# EAGLE library part TMS320C6745 (library ic-TI-DSP)
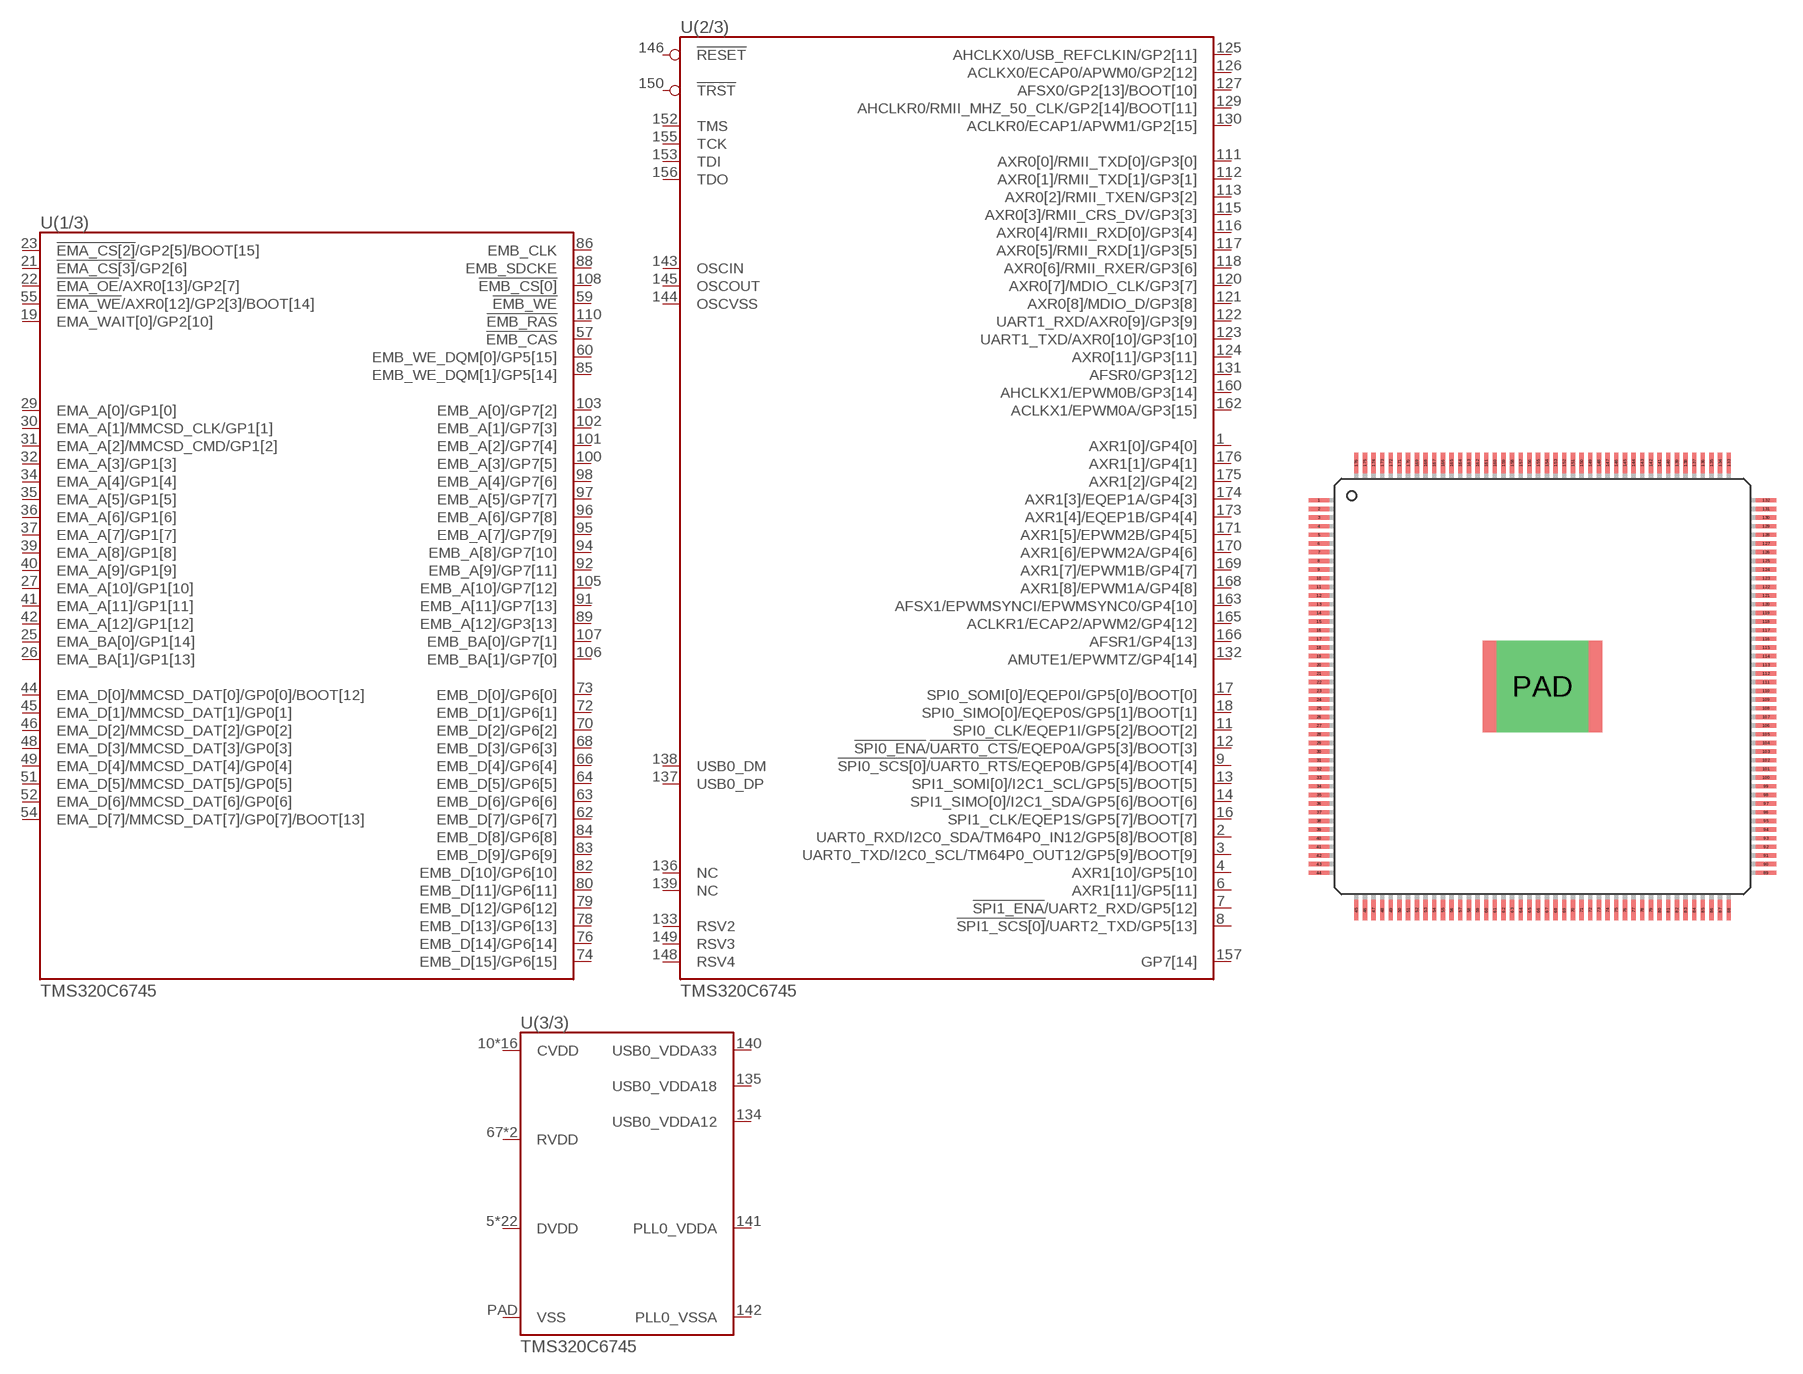
[diagram p0: symbol with the pads of QFP176-0.5-PAD; footprint QFP176-0.5-PAD]

Designator prefix U; gates (1/3)=TMS320C6745-1 (2/3)=TMS320C6745-2 (3/3)=TMS320C6745-3

## TMS320C6745  [QFP176-0.5-PAD]
1  (2/3):AXR1[0]/GP4[0]
2  (2/3):UART0_RXD/I2C0_SDA/TM64P0_IN12/GP5[8]/BOOT[8]
3  (2/3):UART0_TXD/I2C0_SCL/TM64P0_OUT12/GP5[9]/BOOT[9]
4  (2/3):AXR1[10]/GP5[10]
5  (3/3):DVDD
6  (2/3):AXR1[11]/GP5[11]
7  (2/3):!SPI1_ENA!/UART2_RXD/GP5[12]
8  (2/3):!SPI1_SCS[0]!/UART2_TXD/GP5[13]
9  (2/3):!SPI0_SCS[0]!/!UART0_RTS!/EQEP0B/GP5[4]/BOOT[4]
10  (3/3):CVDD
11  (2/3):SPI0_CLK/EQEP1I/GP5[2]/BOOT[2]
12  (2/3):!SPI0_ENA!/!UART0_CTS!/EQEP0A/GP5[3]/BOOT[3]
13  (2/3):SPI1_SOMI[0]/I2C1_SCL/GP5[5]/BOOT[5]
14  (2/3):SPI1_SIMO[0]/I2C1_SDA/GP5[6]/BOOT[6]
15  (3/3):DVDD
16  (2/3):SPI1_CLK/EQEP1S/GP5[7]/BOOT[7]
17  (2/3):SPI0_SOMI[0]/EQEP0I/GP5[0]/BOOT[0]
18  (2/3):SPI0_SIMO[0]/EQEP0S/GP5[1]/BOOT[1]
19  (1/3):EMA_WAIT[0]/GP2[10]
20  (3/3):CVDD
21  (1/3):!EMA_CS[3]!/GP2[6]
22  (1/3):!EMA_OE!/AXR0[13]/GP2[7]
23  (1/3):!EMA_CS[2]!/GP2[5]/BOOT[15]
24  (3/3):DVDD
25  (1/3):EMA_BA[0]/GP1[14]
26  (1/3):EMA_BA[1]/GP1[13]
27  (1/3):EMA_A[10]/GP1[10]
28  (3/3):CVDD
29  (1/3):EMA_A[0]/GP1[0]
30  (1/3):EMA_A[1]/MMCSD_CLK/GP1[1]
31  (1/3):EMA_A[2]/MMCSD_CMD/GP1[2]
32  (1/3):EMA_A[3]/GP1[3]
33  (3/3):DVDD
34  (1/3):EMA_A[4]/GP1[4]
35  (1/3):EMA_A[5]/GP1[5]
36  (1/3):EMA_A[6]/GP1[6]
37  (1/3):EMA_A[7]/GP1[7]
38  (3/3):CVDD
39  (1/3):EMA_A[8]/GP1[8]
40  (1/3):EMA_A[9]/GP1[9]
41  (1/3):EMA_A[11]/GP1[11]
42  (1/3):EMA_A[12]/GP1[12]
43  (3/3):DVDD
44  (1/3):EMA_D[0]/MMCSD_DAT[0]/GP0[0]/BOOT[12]
45  (1/3):EMA_D[1]/MMCSD_DAT[1]/GP0[1]
46  (1/3):EMA_D[2]/MMCSD_DAT[2]/GP0[2]
47  (3/3):DVDD
48  (1/3):EMA_D[3]/MMCSD_DAT[3]/GP0[3]
49  (1/3):EMA_D[4]/MMCSD_DAT[4]/GP0[4]
50  (3/3):CVDD
51  (1/3):EMA_D[5]/MMCSD_DAT[5]/GP0[5]
52  (1/3):EMA_D[6]/MMCSD_DAT[6]/GP0[6]
53  (3/3):DVDD
54  (1/3):EMA_D[7]/MMCSD_DAT[7]/GP0[7]/BOOT[13]
55  (1/3):!EMA_WE!/AXR0[12]/GP2[3]/BOOT[14]
56  (3/3):CVDD
57  (1/3):!EMB_CAS
58  (3/3):DVDD
59  (1/3):!EMB_WE
60  (1/3):EMB_WE_DQM[0]/GP5[15]
61  (3/3):CVDD
62  (1/3):EMB_D[7]/GP6[7]
63  (1/3):EMB_D[6]/GP6[6]
64  (1/3):EMB_D[5]/GP6[5]
65  (3/3):DVDD
66  (1/3):EMB_D[4]/GP6[4]
67  (3/3):RVDD
68  (1/3):EMB_D[3]/GP6[3]
69  (3/3):CVDD
70  (1/3):EMB_D[2]/GP6[2]
71  (3/3):DVDD
72  (1/3):EMB_D[1]/GP6[1]
73  (1/3):EMB_D[0]/GP6[0]
74  (1/3):EMB_D[15]/GP6[15]
75  (3/3):DVDD
76  (1/3):EMB_D[14]/GP6[14]
77  (3/3):CVDD
78  (1/3):EMB_D[13]/GP6[13]
79  (1/3):EMB_D[12]/GP6[12]
80  (1/3):EMB_D[11]/GP6[11]
81  (3/3):DVDD
82  (1/3):EMB_D[10]/GP6[10]
83  (1/3):EMB_D[9]/GP6[9]
84  (1/3):EMB_D[8]/GP6[8]
85  (1/3):EMB_WE_DQM[1]/GP5[14]
86  (1/3):EMB_CLK
87  (3/3):DVDD
88  (1/3):EMB_SDCKE
89  (1/3):EMB_A[12]/GP3[13]
90  (3/3):DVDD
91  (1/3):EMB_A[11]/GP7[13]
92  (1/3):EMB_A[9]/GP7[11]
93  (3/3):CVDD
94  (1/3):EMB_A[8]/GP7[10]
95  (1/3):EMB_A[7]/GP7[9]
96  (1/3):EMB_A[6]/GP7[8]
97  (1/3):EMB_A[5]/GP7[7]
98  (1/3):EMB_A[4]/GP7[6]
99  (3/3):DVDD
100  (1/3):EMB_A[3]/GP7[5]
101  (1/3):EMB_A[2]/GP7[4]
102  (1/3):EMB_A[1]/GP7[3]
103  (1/3):EMB_A[0]/GP7[2]
104  (3/3):CVDD
105  (1/3):EMB_A[10]/GP7[12]
106  (1/3):EMB_BA[1]/GP7[0]
107  (1/3):EMB_BA[0]/GP7[1]
108  (1/3):!EMB_CS[0]
109  (3/3):DVDD
110  (1/3):!EMB_RAS
111  (2/3):AXR0[0]/RMII_TXD[0]/GP3[0]
112  (2/3):AXR0[1]/RMII_TXD[1]/GP3[1]
113  (2/3):AXR0[2]/RMII_TXEN/GP3[2]
114  (3/3):CVDD
115  (2/3):AXR0[3]/RMII_CRS_DV/GP3[3]
116  (2/3):AXR0[4]/RMII_RXD[0]/GP3[4]
117  (2/3):AXR0[5]/RMII_RXD[1]/GP3[5]
118  (2/3):AXR0[6]/RMII_RXER/GP3[6]
119  (3/3):DVDD
120  (2/3):AXR0[7]/MDIO_CLK/GP3[7]
121  (2/3):AXR0[8]/MDIO_D/GP3[8]
122  (2/3):UART1_RXD/AXR0[9]/GP3[9]
123  (2/3):UART1_TXD/AXR0[10]/GP3[10]
124  (2/3):AXR0[11]/GP3[11]
125  (2/3):AHCLKX0/USB_REFCLKIN/GP2[11]
126  (2/3):ACLKX0/ECAP0/APWM0/GP2[12]
127  (2/3):AFSX0/GP2[13]/BOOT[10]
128  (3/3):DVDD
129  (2/3):AHCLKR0/RMII_MHZ_50_CLK/GP2[14]/BOOT[11]
130  (2/3):ACLKR0/ECAP1/APWM1/GP2[15]
131  (2/3):AFSR0/GP3[12]
132  (2/3):AMUTE1/EPWMTZ/GP4[14]
133  (2/3):RSV2
134  (3/3):USB0_VDDA12
135  (3/3):USB0_VDDA18
136  (2/3):NC
137  (2/3):USB0_DP
138  (2/3):USB0_DM
139  (2/3):NC
140  (3/3):USB0_VDDA33
141  (3/3):PLL0_VDDA
142  (3/3):PLL0_VSSA
143  (2/3):OSCIN
144  (2/3):OSCVSS
145  (2/3):OSCOUT
146  (2/3):!RESET
147  (3/3):CVDD
148  (2/3):RSV4
149  (2/3):RSV3
150  (2/3):!TRST
151  (3/3):DVDD
152  (2/3):TMS
153  (2/3):TDI
154  (3/3):CVDD
155  (2/3):TCK
156  (2/3):TDO
157  (2/3):GP7[14]
158  (3/3):DVDD
159  (3/3):RVDD
160  (2/3):AHCLKX1/EPWM0B/GP3[14]
161  (3/3):CVDD
162  (2/3):ACLKX1/EPWM0A/GP3[15]
163  (2/3):AFSX1/EPWMSYNCI/EPWMSYNC0/GP4[10]
164  (3/3):DVDD
165  (2/3):ACLKR1/ECAP2/APWM2/GP4[12]
166  (2/3):AFSR1/GP4[13]
167  (3/3):CVDD
168  (2/3):AXR1[8]/EPWM1A/GP4[8]
169  (2/3):AXR1[7]/EPWM1B/GP4[7]
170  (2/3):AXR1[6]/EPWM2A/GP4[6]
171  (2/3):AXR1[5]/EPWM2B/GP4[5]
172  (3/3):DVDD
173  (2/3):AXR1[4]/EQEP1B/GP4[4]
174  (2/3):AXR1[3]/EQEP1A/GP4[3]
175  (2/3):AXR1[2]/GP4[2]
176  (2/3):AXR1[1]/GP4[1]
PAD  (3/3):VSS

## Footprint QFP176-0.5-PAD (pad centres in mm)
smd 1.2 x 0.25: 1 -12.9,10.75; 2 -12.9,10.25; 3 -12.9,9.75; 4 -12.9,9.25; 5 -12.9,8.75; 6 -12.9,8.25; 7 -12.9,7.75; 8 -12.9,7.25; 9 -12.9,6.75; 10 -12.9,6.25; 11 -12.9,5.75; 12 -12.9,5.25; 13 -12.9,4.75; 14 -12.9,4.25; 15 -12.9,3.75; 16 -12.9,3.25; 17 -12.9,2.75; 18 -12.9,2.25; 19 -12.9,1.75; 20 -12.9,1.25; 21 -12.9,0.75; 22 -12.9,0.25; 23 -12.9,-0.25; 24 -12.9,-0.75; 25 -12.9,-1.25; 26 -12.9,-1.75; 27 -12.9,-2.25; 28 -12.9,-2.75; 29 -12.9,-3.25; 30 -12.9,-3.75; 31 -12.9,-4.25; 32 -12.9,-4.75; 33 -12.9,-5.25; 34 -12.9,-5.75; 35 -12.9,-6.25; 36 -12.9,-6.75; 37 -12.9,-7.25; 38 -12.9,-7.75; 39 -12.9,-8.25; 40 -12.9,-8.75; 41 -12.9,-9.25; 42 -12.9,-9.75; 43 -12.9,-10.25; 44 -12.9,-10.75; 89 12.9,-10.75; 90 12.9,-10.25; 91 12.9,-9.75; 92 12.9,-9.25; 93 12.9,-8.75; 94 12.9,-8.25; 95 12.9,-7.75; 96 12.9,-7.25; 97 12.9,-6.75; 98 12.9,-6.25; 99 12.9,-5.75; 100 12.9,-5.25; 101 12.9,-4.75; 102 12.9,-4.25; 103 12.9,-3.75; 104 12.9,-3.25; 105 12.9,-2.75; 106 12.9,-2.25; 107 12.9,-1.75; 108 12.9,-1.25; 109 12.9,-0.75; 110 12.9,-0.25; 111 12.9,0.25; 112 12.9,0.75; 113 12.9,1.25; 114 12.9,1.75; 115 12.9,2.25; 116 12.9,2.75; 117 12.9,3.25; 118 12.9,3.75; 119 12.9,4.25; 120 12.9,4.75; 121 12.9,5.25; 122 12.9,5.75; 123 12.9,6.25; 124 12.9,6.75; 125 12.9,7.25; 126 12.9,7.75; 127 12.9,8.25; 128 12.9,8.75; 129 12.9,9.25; 130 12.9,9.75; 131 12.9,10.25; 132 12.9,10.75
smd 0.25 x 1.2: 45 -10.75,-12.9; 46 -10.25,-12.9; 47 -9.75,-12.9; 48 -9.25,-12.9; 49 -8.75,-12.9; 50 -8.25,-12.9; 51 -7.75,-12.9; 52 -7.25,-12.9; 53 -6.75,-12.9; 54 -6.25,-12.9; 55 -5.75,-12.9; 56 -5.25,-12.9; 57 -4.75,-12.9; 58 -4.25,-12.9; 59 -3.75,-12.9; 60 -3.25,-12.9; 61 -2.75,-12.9; 62 -2.25,-12.9; 63 -1.75,-12.9; 64 -1.25,-12.9; 65 -0.75,-12.9; 66 -0.25,-12.9; 67 0.25,-12.9; 68 0.75,-12.9; 69 1.25,-12.9; 70 1.75,-12.9; 71 2.25,-12.9; 72 2.75,-12.9; 73 3.25,-12.9; 74 3.75,-12.9; 75 4.25,-12.9; 76 4.75,-12.9; 77 5.25,-12.9; 78 5.75,-12.9; 79 6.25,-12.9; 80 6.75,-12.9; 81 7.25,-12.9; 82 7.75,-12.9; 83 8.25,-12.9; 84 8.75,-12.9; 85 9.25,-12.9; 86 9.75,-12.9; 87 10.25,-12.9; 88 10.75,-12.9; 133 10.75,12.9; 134 10.25,12.9; 135 9.75,12.9; 136 9.25,12.9; 137 8.75,12.9; 138 8.25,12.9; 139 7.75,12.9; 140 7.25,12.9; 141 6.75,12.9; 142 6.25,12.9; 143 5.75,12.9; 144 5.25,12.9; 145 4.75,12.9; 146 4.25,12.9; 147 3.75,12.9; 148 3.25,12.9; 149 2.75,12.9; 150 2.25,12.9; 151 1.75,12.9; 152 1.25,12.9; 153 0.75,12.9; 154 0.25,12.9; 155 -0.25,12.9; 156 -0.75,12.9; 157 -1.25,12.9; 158 -1.75,12.9; 159 -2.25,12.9; 160 -2.75,12.9; 161 -3.25,12.9; 162 -3.75,12.9; 163 -4.25,12.9; 164 -4.75,12.9; 165 -5.25,12.9; 166 -5.75,12.9; 167 -6.25,12.9; 168 -6.75,12.9; 169 -7.25,12.9; 170 -7.75,12.9; 171 -8.25,12.9; 172 -8.75,12.9; 173 -9.25,12.9; 174 -9.75,12.9; 175 -10.25,12.9; 176 -10.75,12.9
drill 3.3 pad 5.3 square: PAD 0,0